# Altium schematic symbol library XP_3P.Schlib: 1 symbol
Pins are listed as number, name and electrical type; pins without a type are passive.

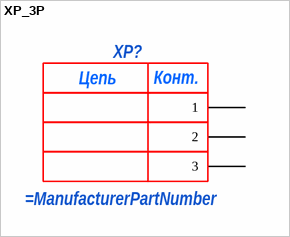
[diagram p0: symbol XP_3P]

## XP_3P
designator XP?
pins: 1, 2, 3
text: Цепь; Конт.